# Altium footprint library test_pad.PcbLib: 3 footprints
Each footprint in its own frame and in the unit in brackets; x right, y up, seen from the top. Pads: shape width x height; smd on the part's side, far side on the other; paste and mask are expansions set on the pad; w line width, h text height; cw(c..) or ccw(c..) is an arc to the next point about the centre after c.
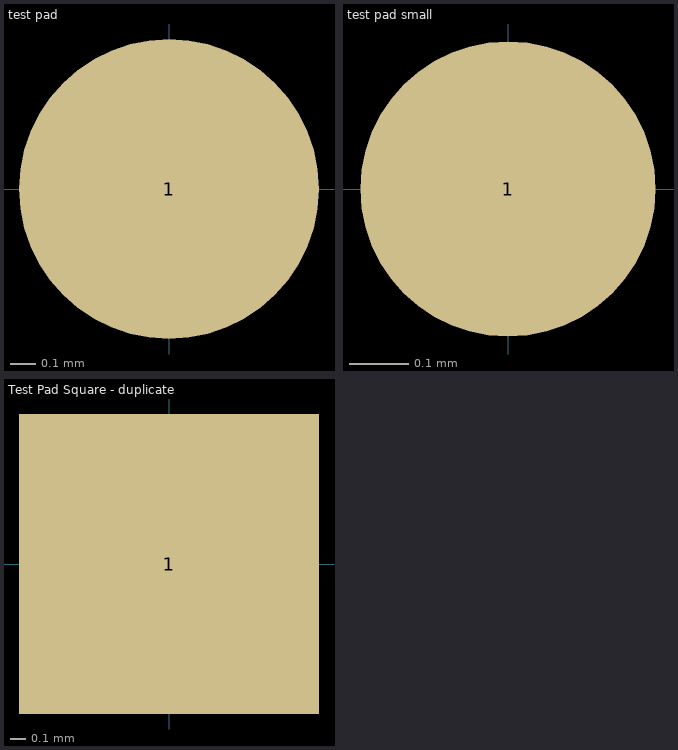
[diagram p0: the footprints below, top view; thin cyan lines are the x and y axes]

## test pad [mm] "test pad"
pads (1):
  round 1.2 smd paste-0.6: 1(0,0)

## test pad small [mm] "test pad"
pads (1):
  round 0.5 smd paste-0.6: 1(0,0)

## Test Pad Square - duplicate [mm] "2.15x2.15 mm"
pads (1):
  rect 2x2 smd paste-1: 1(0,0)